# EAGLE library part 750811016 (library Wurth_Power Magnetics_WE-OLPI)
WE-OLPI Offline Flyback Transformers Characteristics Universal offline input voltage Output power from 2 to 35 W Operating temperature: –40 °C to +125 °C Isolation voltage: up to 5000VAC Applications Offline-switch mode power supplies Especially designed for several ICs from Power Integrations <https://www.we-online.com/components/media/o801423v209%20FAMILY-MID-OLPI.jpg> Details see: www.we-online.com/en/components/products/WE-OLPI <www.we-online.com/catalog/WE-OLPI/?utm_source=eagle_model&utm_medium=description_link&utm_campaign=eisos_eagle> Created by Ella Wu 2024-07-03 2024 (C) Wurth Elektronik
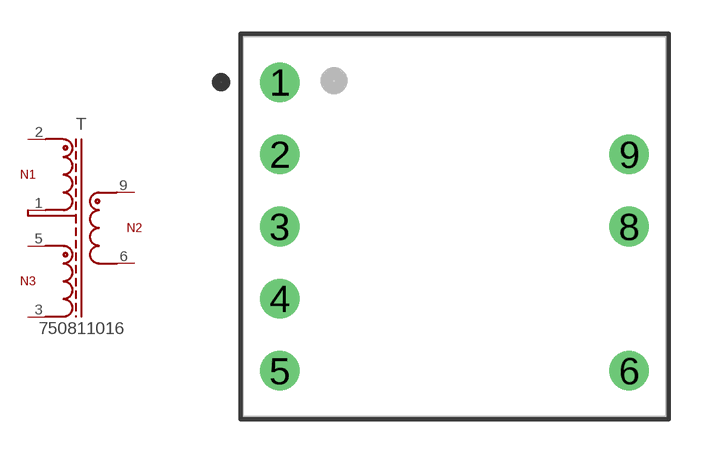
[diagram p7: symbol with the pads of WE-OLPI_EE16/7/5_L16.9W18.8H13; footprint WE-OLPI_EE16/7/5_L16.9W18.8H13]

Designator prefix T

## 750811016 (DATASHEET-URL: https://www.we-online.com/redexpert/spec/750811016?ae; FSWITCH: 100kHz; HEIGHT: 13mm; IOUT1: 1200A; ISAT: 450V; L: 1.67uH; LENGTH: 16.9mm; MOUNT: THT; N: 16.42 : 1 : 2.71; PART-NUMBER: 750811016; SIZE: EE16/7/5; VALUE: 750811016; VAUX: 13.5V; VIN: 85 - 265 V (AC); VOUT1: 5V; VT: 4500V(AC); WIDTH: 18.8mm)  [WE-OLPI_EE16/7/5_L16.9W18.8H13]
1  1  pas
2  2  pas
3  3  pas
5  5  pas
6  6  pas
9  9  pas

## Footprint WE-OLPI_EE16/7/5_L16.9W18.8H13 (pad centres in mm)
MID-OLPI Offline Flyback Transformers for Power Integrations Size: EE16/7/5,THT,8pins LXWXH=16.9X18.8X13mm
drill 1.17: 1 -7.75,6.4; 2 -7.75,3.2; 3 -7.75,0; 4 -7.75,-3.2; 5 -7.75,-6.4; 6 7.75,-6.4; 8 7.75,0; 9 7.75,3.2